# Altium footprint library BQ25895.PcbLib: 9 footprints
Each footprint in its own frame and in the unit in brackets; x right, y up, seen from the top. Pads: shape width x height; smd on the part's side, far side on the other; paste and mask are expansions set on the pad; w line width, h text height; cw(c..) or ccw(c..) is an arc to the next point about the centre after c.
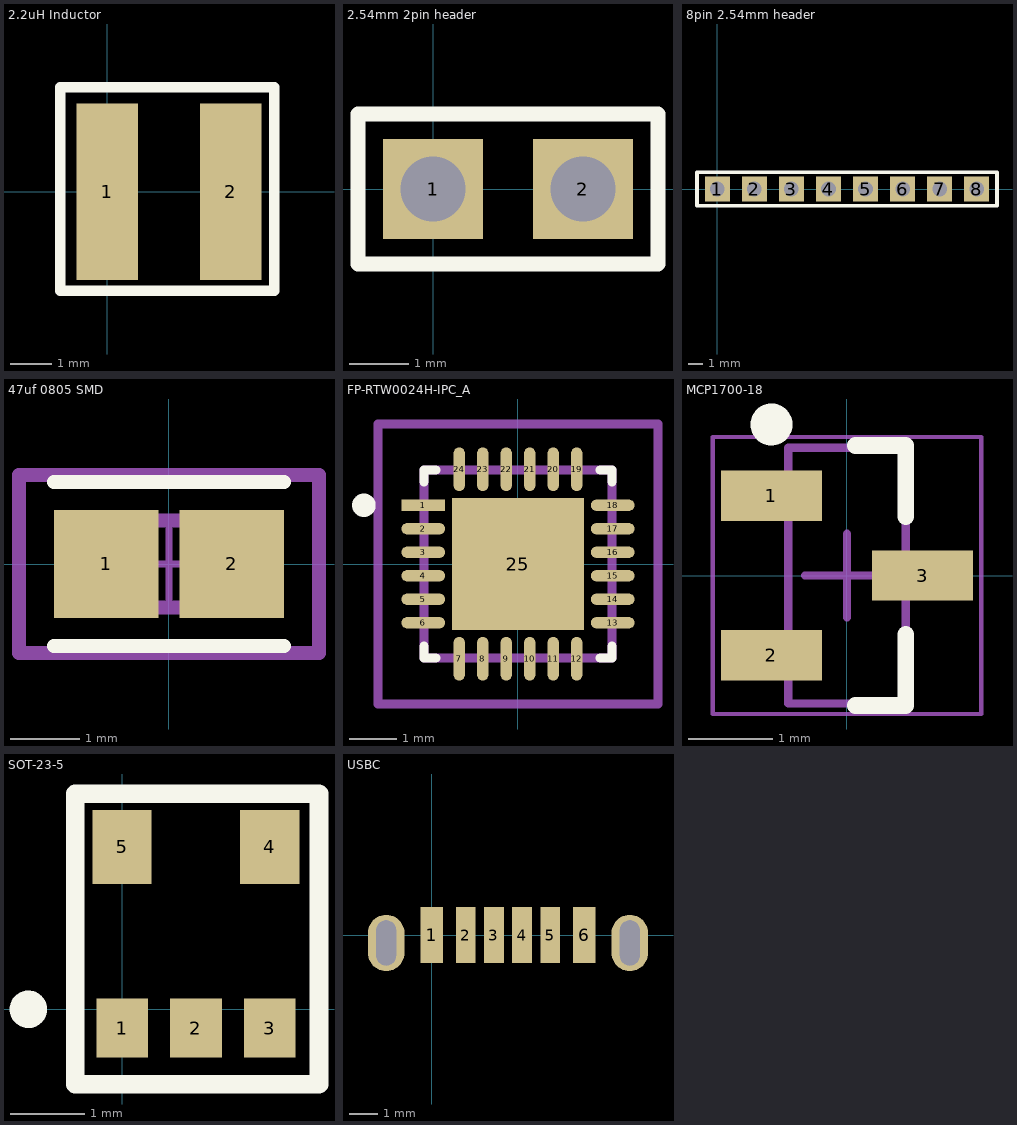
[diagram p0: the footprints below, top view; thin cyan lines are the x and y axes]

## 2.2uH Inductor [mm]
pads (2):
  rect 1.5x4.3 smd: 1(0,0) 2(3,0)
Top Overlay:
  lines w0.254: -1.143,-2.413 4.064,-2.413 4.064,2.54 -1.143,2.54 -1.143,-2.413
Top Designator:
  text ".Designator" at -6.157,-0.444 h1.52
3D body "2.2uH inductor.step": height 1.5, standoff 0, extent -0.617,-2.15 3.683,2.15

## 2.54mm 2pin header [mm]
pads (2):
  rect 1.7x1.7 hole 1.1: 1(0,0) 2(2.54,0)
Top Overlay:
  lines w0.254: -1.27,-1.27 3.81,-1.27 3.81,1.27 -1.27,1.27 -1.27,-1.27
Top Designator:
  text ".Designator" at -6.348,-0.508 h1.52
3D body "Header, Male, 2.54mm, 1x2.STEP": height 8.54, standoff -3, extent -1.27,-1.27 3.81,1.27

## 8pin 2.54mm header [mm]
pads (8):
  rect 1.7x1.7 hole 1: 1(0,0) 2(2.54,0) 3(5.08,0) 4(7.62,0) 5(10.16,0) 6(12.7,0) 7(15.24,0) 8(17.78,0)
Top Overlay:
  lines w0.254: -1.397,-1.143 -1.397,-0.889 -1.397,1.143 19.177,1.143 19.177,-1.143 -1.397,-1.143
Top Designator:
  text ".Designator" at 1.272,-0.508 h1.52
3D body "Header, Male, 2.54mm, 1x8.STEP": height 8.54, standoff -3, extent -1.27,-1.27 19.05,1.27

## 47uf 0805 SMD [mm]
pads (2):
  rect 1.505x1.556 smd paste+0 mask+0: 1(-0.901,0) 2(0.901,0)
Top Overlay:
  lines w0.2: -1.653,-1.178 1.653,-1.178 ; -1.653,1.178 1.653,1.178
Top Designator:
  text ".Designator" at -6.493,-0.508 h1.52
Top Assembly:
  lines w0.2: -2.153,-1.278 -2.153,1.278 2.153,1.278 2.153,-1.278 -2.153,-1.278
  text ".Designator" at 0,0.188 h1
Top 3D Body:
  lines w0.2: -1,-0.625 -1,0.625 1,0.625 1,-0.625 -1,-0.625
Top Courtyard:
  lines w0.2: -2.153,-1.278 -2.153,1.278 2.153,1.278 2.153,-1.278 -2.153,-1.278
Top Component Center:
  lines w0.1: -0.5,0 0.5,0 ; 0,-0.5 0,0.5
3D body "Cap_Kemet_C0805C476M9PACTU_eec.STEP": height 0.25, standoff 0, extent -2.153,-1.278 2.153,1.278

## FP-RTW0024H-IPC_A [mm]
pads (25):
  rect 0.929x0.239 smd paste+0 mask+0: 1(-2.015,1.25)
  rrect100% 0.929x0.239 smd paste+0 mask+0: 2(-2.015,0.75) 3(-2.015,0.25) 4(-2.015,-0.25) 5(-2.015,-0.75) 6(-2.015,-1.25) 13(2.015,-1.25) 14(2.015,-0.75) 15(2.015,-0.25) 16(2.015,0.25) 17(2.015,0.75) 18(2.015,1.25)
  rrect100% 0.239x0.929 smd paste+0 mask+0: 7(-1.25,-2.015) 8(-0.75,-2.015) 9(-0.25,-2.015) 10(0.25,-2.015) 11(0.75,-2.015) 12(1.25,-2.015) 19(1.25,2.015) 20(0.75,2.015) 21(0.25,2.015) 22(-0.25,2.015) 23(-0.75,2.015) 24(-1.25,2.015)
  rect 2.8x2.8 smd paste-1000 mask+0: 25(0,0)
Top Overlay:
  circle w0.25: c-3.279,1.25 r0.125
  lines w0.2: -2,-1.75 -2,-2 -1.75,-2 ; -2,1.75 -2,2 -1.75,2 ; 1.75,-2 2,-2 2,-1.75 ; 1.75,2 2,2 2,1.75
Top Paste:
  rectangle: -0.885,-0.885 0.885,0.885
Top Designator:
  text ".Designator" at -7.131,-0.508 h1.52
Top Assembly:
  lines w0.2: -2.979,-2.979 2.979,-2.979 2.979,2.979 -2.979,2.979 -2.979,-2.979
  text ".Designator" at 0,0.188 h1
Top 3D Body:
  lines w0.2: -2,-2 2,-2 2,2 -2,2 -2,-2
Top Courtyard:
  lines w0.2: -2.979,-2.979 2.979,-2.979 2.979,2.979 -2.979,2.979 -2.979,-2.979
Top Component Center:
  lines w0.1: -0.5,0 0.5,0 ; 0,-0.5 0,0.5
3D body "IC_Texas_Instruments_BQ25892RTWT_eec.STEP": height 0.25, standoff 0, extent -2.979,-2.979 2.979,2.979

## MCP1700-18 [mm]
pads (3):
  rect 1.2x0.6 smd: 1(-0.9,0.95) 2(-0.9,-0.95) 3(0.9,0)
Top Overlay:
  circle w0.25: c-0.9,1.8 r0.125
  lines w0.2: 0.1,-1.55 0.7,-1.55 0.7,-0.7 ; 0.1,1.55 0.7,1.55 0.7,0.7
Top Designator:
  text ".Designator" at -7.618,-0.32 h1.52
Top 3D Body:
  lines w0.1: -0.7,-1.525 0.7,-1.525 0.7,1.525 -0.7,1.525 -0.7,-1.525
Top Courtyard:
  lines w0.05: -1.6,-1.65 1.6,-1.65 1.6,1.65 -1.6,1.65 -1.6,-1.65
  lines w0.1: -0.5,0 0.5,0 ; 0,-0.5 0,0.5
3D body: height 1.12, standoff 0.01, extent -0.7,-1.525 0.7,1.525

## RT9193-33GB [mm]
Top Designator:
  text ".Designator" at -7.63,-0.521 h1.52

## SOT-23-5 [mm]
pads (5):
  rect 0.7x0.8 smd: 1(0,-0.254) 2(1,-0.254) 3(2,-0.254)
  rect 0.8x1 smd: 4(2,2.2) 5(0,2.2)
Top Overlay:
  circle w0.254: c-1.27,0 r0.127
  lines w0.254: -0.635,-1.016 -0.635,-0.762 -0.635,-0.508 -0.635,2.921 2.667,2.921 2.667,-1.016 -0.635,-1.016
Top Designator:
  text ".Designator" at -6.983,0.445 h1.52
3D body "SOT-23-5_RIT.step": height 1.3, standoff 0, extent -0.533,-0.483 2.565,2.515

## USBC [mm]
pads (8):
  rect 0.8x2 smd: 1(0,0) 6(5.4,0)
  rect 0.7x2 smd: 2(1.2,0) 3(2.2,0) 4(3.2,0) 5(4.2,0)
  oval 1.3x2 hole 0.7 slot 1.6 at 90 deg: ""(-1.62,-0.28) ""(7.02,-0.28)
Top Designator:
  text ".Designator" at -4.918,2.186 h1.52
3D body "USB_type_C_smd_6p.stp": height 3.2, standoff -1.27, extent -1.834,-1.181 7.366,6.769